# Altium schematic symbol library DC_Main_Schematic.SchLib: 65 symbols
Pins are listed as number, name and electrical type; pins without a type are passive.

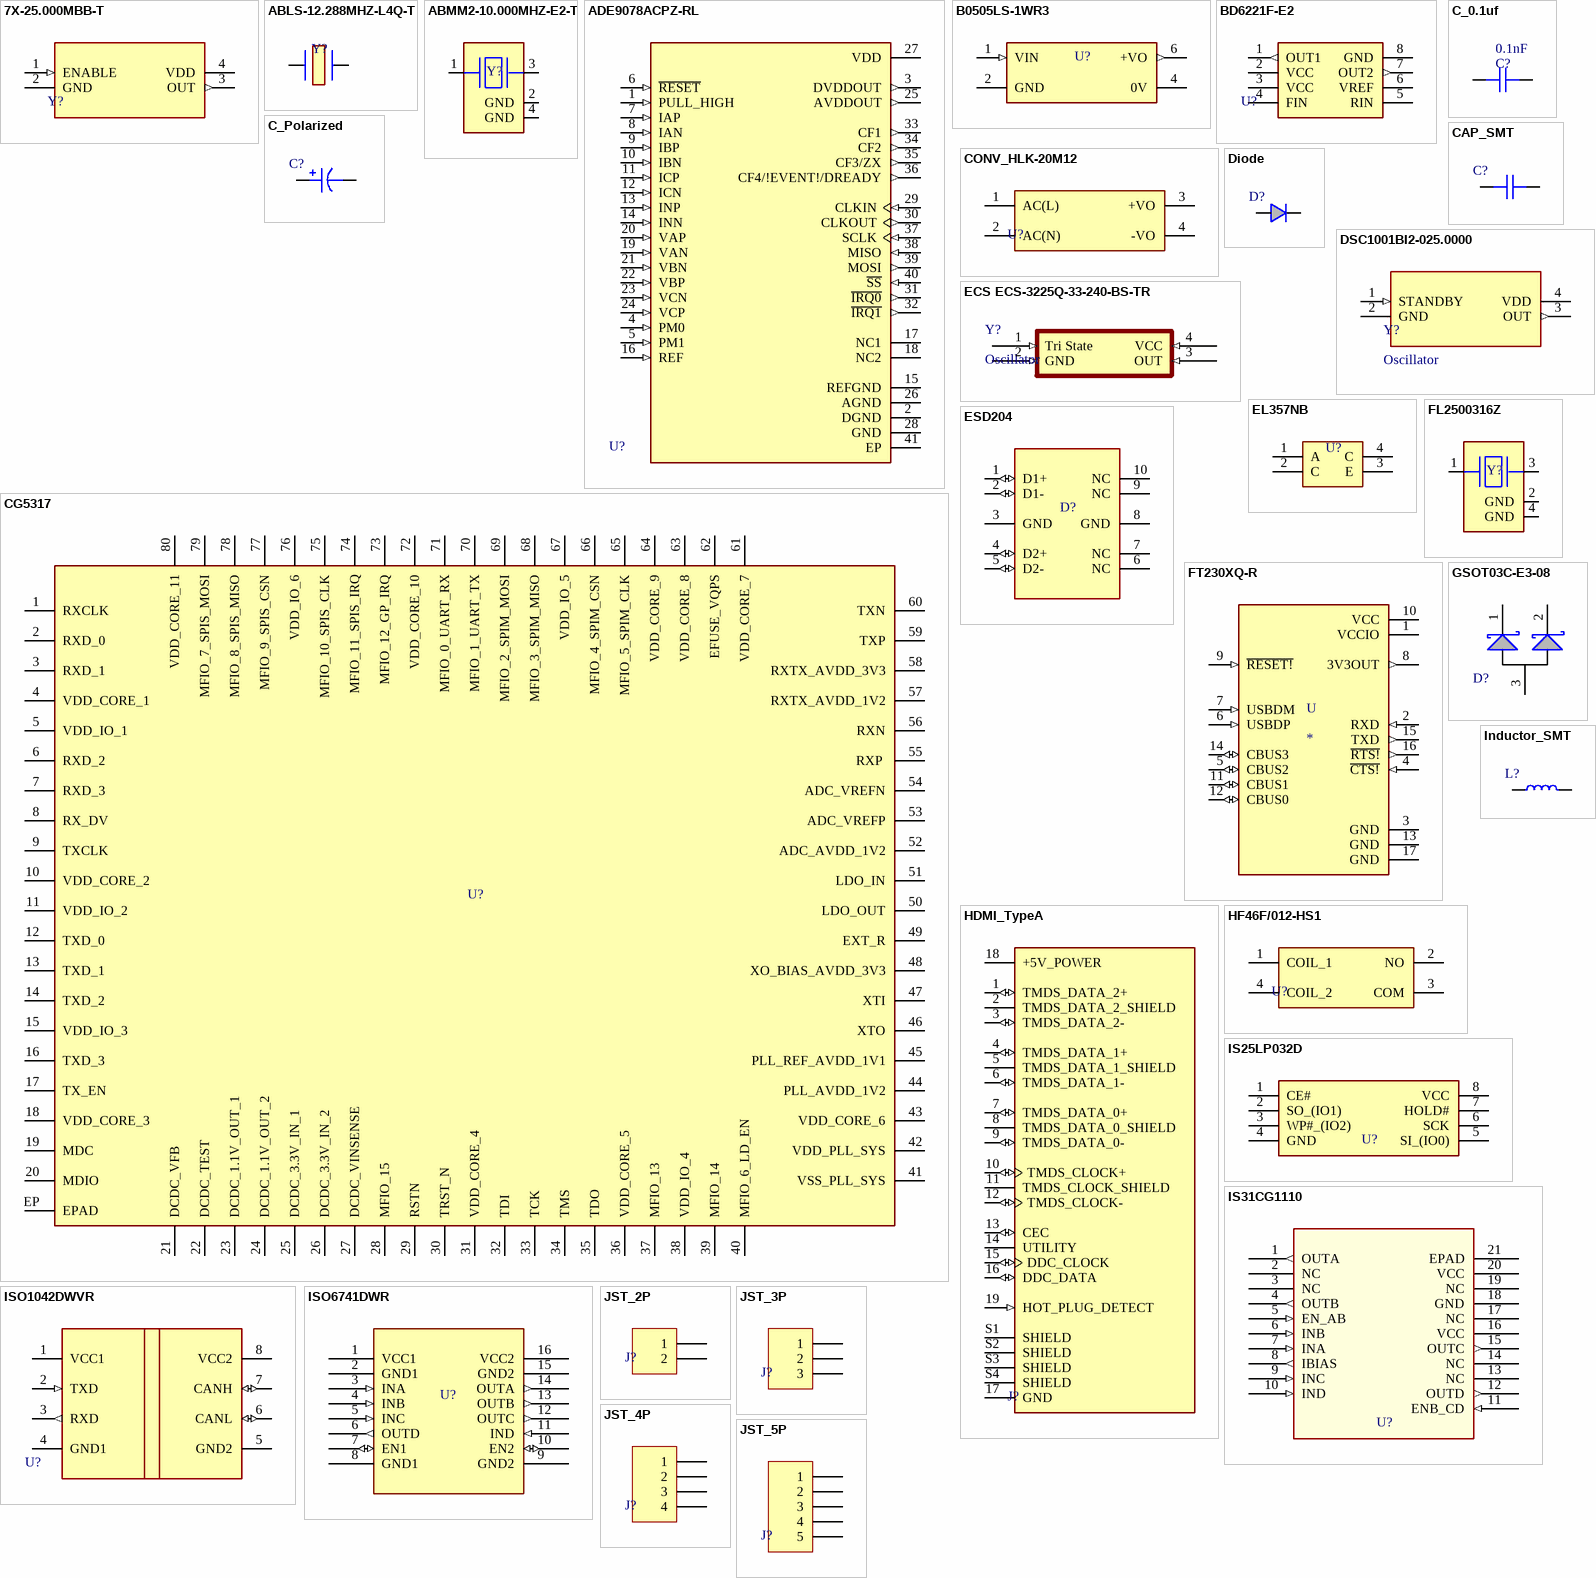
[diagram p0: symbols 7X-25.000MBB-T to JST_5P]

## 7X-25.000MBB-T
designator Y?, comment Oscillator  (value not drawn)
Standard Clock Oscillators 25.000MHz 3.3V50ppm(-10 +70C); ComponentLink1Description: New link
footprint 7X-25.000MBB-T
pins: 1 ENABLE (in), 2 GND (power), 3 OUT (out), 4 VDD (power)

## ABLS-12.288MHZ-L4Q-T
designator Y?, comment Crystal  (value not drawn)
12.288 MHz ±30ppm Crystal 18pF 50 Ohms HC-49/US; ComponentLink1Description: New link
footprint ABLS-12.288MHZ-L4Q-T
pins: 1, 2

## ABMM2-10.000MHZ-E2-T
designator Y?, comment Crystal  (value not drawn)
10 MHz ±20ppm Crystal 18pF 50 Ohms 4-SMD, No Lead; ComponentLink1Description: New link
footprint ABMM2-10.000MHZ-E2-T
pins: 1, 2 GND (power), 3 2, 4 GND (power)

## ADE9078ACPZ-RL
designator U?  (value not drawn)
Energy Measurement 40-Pin LFCSP EP T/R; ComponentLink1Description: New link; ComponentLink1URL: *; value: *
footprint ADE9078ACPZ-RL (LFCSP-40)
pins: 1 PULL_HIGH (in), 2 DGND (power), 3 DVDDOUT (out), 4 PM0 (in), 5 PM1 (in), 6 ~{RESET} (in), 7 IAP (in), 8 IAN (in), 9 IBP (in), 10 IBN (in), 11 ICP (in), 12 ICN (in), 13 INP (in), 14 INN (in), 15 REFGND (power), 16 REF (in), 17 NC1, 18 NC2, 19 VAN (in), 20 VAP (in), 21 VBN (in), 22 VBP (in), 23 VCN (in), 24 VCP (in), 25 AVDDOUT (out), 26 AGND (power), 27 VDD (power), 28 GND (power), 29 CLKIN (in), 30 CLKOUT (out), 31 ~{IRQ0} (out), 32 ~{IRQ1} (out), 33 CF1 (out), 34 CF2 (out), 35 CF3/ZX (out), 36 CF4/!EVENT!/DREADY (out), 37 SCLK (in), 38 MISO (in), 39 MOSI (out), 40 ~{SS} (in), 41 EP (power)

## B0505LS-1WR3
designator U?  (value not drawn)
Isolated Module DC DC Converter 1 Output 5V 200mA 4.5V - 5.5V Input; ComponentLink1Description: New link; ComponentLink1URL: *; value: *
footprint CONV_B0505LS-1WR3 (SIP,19.7x6mm)
pins: 1 VIN (in), 2 GND (power), 4 0V, 6 +VO (out)

## BD6221F-E2
designator U?  (value not drawn)
Motor/Motion/Ignition Controllers & Drivers H-BRIDGE 18V max 1 Chan 1.0A 1.5ohm; ComponentLink1Description: New link; value: *
footprint BD6221F-E2 (SOP-8)
pins: 1 OUT1 (out), 2 VCC (power), 3 VCC (power), 4 FIN, 5 RIN, 6 VREF (power), 7 OUT2 (out), 8 GND (power)

## C_0.1uf
designator C?, comment value 0.1nF  (hidden comment: Capacitor)
50V 100nF X7R ±10% 0402 Multilayer Ceramic Capacitors MLCC - SMD/SMT ROHS; Mfr: YAGEO; Mfr_prt_no: CC0402KRX7R9BB104; pkg: 0402; ComponentLink1Description: New link; ComponentLink1URL: https://www.lcsc.com/product-detail/Multilayer-Ceramic-Capacitors-MLCC-SMD-SMT_YAGEO-CC0402KRX7R9BB104_C131394.html; supplier: LCSC; supplier_prt_no: C131394
footprint C0402
pins: 1, 1

## C_Polarized
designator C?, comment Polarized Capacitor  (value not drawn)
ComponentLink1Description: New link
footprint C_CASE-D-7343
footprint C_CASE-C-6032
footprint C1206_Tantalum
pins: 1, 1

## CAP_SMT
designator C?, comment Capacitor  (value not drawn)
ComponentLink1Description: New link
footprint C0402
footprint C0603
footprint C0805
footprint C1206
pins: 1, 1

## CG5317
designator U?, comment HomePlug Green PHY Transceiver  (value not drawn)
HomePlug Green PHY Transceiver,EP-LQFP80; ComponentLink1Description: New link; value: *
footprint EP-LQFP80
pins: 1 RXCLK, 2 RXD_0, 3 RXD_1, 4 VDD_CORE_1, 5 VDD_IO_1, 6 RXD_2, 7 RXD_3, 8 RX_DV, 9 TXCLK, 10 VDD_CORE_2, 11 VDD_IO_2, 12 TXD_0, 13 TXD_1, 14 TXD_2, 15 VDD_IO_3, 16 TXD_3, 17 TX_EN, 18 VDD_CORE_3, 19 MDC, 20 MDIO, 21 DCDC_VFB, 22 DCDC_TEST, 23 DCDC_1.1V_OUT_1, 24 DCDC_1.1V_OUT_2, 25 DCDC_3.3V_IN_1, 26 DCDC_3.3V_IN_2, 27 DCDC_VINSENSE, 28 MFIO_15, 29 RSTN, 30 TRST_N, 31 VDD_CORE_4, 32 TDI, 33 TCK, 34 TMS, 35 TDO, 36 VDD_CORE_5, 37 MFIO_13, 38 VDD_IO_4, 39 MFIO_14, 40 MFIO_6_LD_EN, 41 VSS_PLL_SYS, 42 VDD_PLL_SYS, 43 VDD_CORE_6, 44 PLL_AVDD_1V2, 45 PLL_REF_AVDD_1V1, 46 XTO, 47 XTI, 48 XO_BIAS_AVDD_3V3, 49 EXT_R, 50 LDO_OUT, 51 LDO_IN, 52 ADC_AVDD_1V2, 53 ADC_VREFP, 54 ADC_VREFN, 55 RXP , 56 RXN, 57 RXTX_AVDD_1V2, 58 RXTX_AVDD_3V3, 59 TXP, 60 TXN, 61 VDD_CORE_7, 62 EFUSE_VQPS, 63 VDD_CORE_8, 64 VDD_CORE_9, 65 MFIO_5_SPIM_CLK, 66 MFIO_4_SPIM_CSN, 67 VDD_IO_5, 68 MFIO_3_SPIM_MISO, 69 MFIO_2_SPIM_MOSI, 70 MFIO_1_UART_TX, 71 MFIO_0_UART_RX, 72 VDD_CORE_10, 73 MFIO_12_GP_IRQ, 74 MFIO_11_SPIS_IRQ, 75 MFIO_10_SPIS_CLK, 76 VDD_IO_6, 77 MFIO_9_SPIS_CSN, 78 MFIO_8_SPIS_MISO, 79 MFIO_7_SPIS_MOSI, 80 VDD_CORE_11, EP EPAD

## CONV_HLK-20M12
designator U?  (value not drawn)
12V 1.6A 90VAC~265VAC 120V~350V 20W Step Down AC-DC 82% Plugin Power Modules ROHS; ComponentLink1Description: New link; ComponentLink1URL: *; value: *
footprint CONV_HLK-20M12
pins: 1 AC(L), 2 AC(N), 3 +VO, 4 -VO

## Diode
designator D?  (value not drawn)
ComponentLink1Description: New link; ComponentLink1URL: *; value: *
footprint DO-219AB
pins: A, C K

## DSC1001BI2-025.0000
designator Y?, comment Oscillator
Standard Clock Oscillators 5032 pkg -40-85C 25ppm 025.0000MHz; ComponentLink1Description: New link
footprint DSC1001BI2-025.0000
pins: 1 STANDBY (in), 2 GND (power), 3 OUT (out), 4 VDD (power)

## ECS ECS-3225Q-33-240-BS-TR
designator Y?, comment Oscillator
SMD3225-4P Crystal Oscillators ROHS / 24MHz
footprint ECS-3225Q-33-240-BS-TR
pins: 1 Tri State (in), 2 GND (in), 3 OUT (in), 4 VCC (in)

## EL357NB
designator U?  (value not drawn)
80V 3.75kV 80mA 100mV@1mA,20mA 1 6V 1.2V DC SOP-4 Transistor Output Optocoupler; ComponentLink1Description: New link; ComponentLink1URL: *; value: *
footprint SOP-4
pins: 1 A, 2 C, 3 E, 4 C

## ESD204
designator D?, comment ESD Protection  (value not drawn)
ESD / Quad 0.55-pF, ±3.6-V, ±30-kV ESD protection diode with 5.5A surge rating for USB & HDMI; ComponentLink1Description: New link
footprint USON-10 (ESD204)
pins: 1 D1+ (io), 2 D1- (io), 3 GND (power), 4 D2+ (io), 5 D2- (io), 6 NC, 7 NC, 8 GND (power), 9 NC, 10 NC

## FL2500316Z
designator Y?, comment Crystal  (value not drawn)
25 MHz ±20ppm Crystal 20pF 30 Ohms 4-SMD, No Lead; ComponentLink1Description: New link
footprint FL2500316Z
pins: 1, 2 GND (power), 3 2, 4 GND (power)

## FT230XQ-R
designator U
USB Bridge, USB to UART USB 2.0 UART Interface 16-QFN (4x4); MP: FT230XQ-R; MF: FTDI,; Availability: Unavailable; Value: *; DigiKey-Purchase-URL: https://snapeda.com/shop?store=DigiKey&id=51347; Package: QFN-16 FTDI; Price: None; SnapEDA_Link: https://www.snapeda.com/parts/FT230XQ-R/FTDI,%20Future%20Technology%20Devices%20International%20Ltd/view-part/51347/?ref=snap
footprint FT230XQ-R
pins: 1 VCCIO (power), 2 RXD (in), 3 GND (power), 4 ~{CTS!} (in), 5 CBUS2 (io), 6 USBDP (in), 7 USBDM (in), 8 3V3OUT (out), 9 ~{RESET!} (in), 10 VCC (power), 11 CBUS1 (io), 12 CBUS0 (io), 13 GND (power), 14 CBUS3 (io), 15 TXD (out), 16 ~{RTS!} (out), 17 GND (power)

## GSOT03C-E3-08
designator D?, comment TVS  (value not drawn)
12.3V Clamp 30A (8/20µs) Ipp Tvs Diode Surface Mount SOT-23-3; ComponentLink1Description: New link; ComponentLink1URL: *; value: *
footprint SOT-23-3
pins: 1 K1, 2 K2, 3 A

## HDMI_TypeA
designator J?, comment HDMI Type A  (value not drawn)
HDMI, Input Output Connectors, Receptacle, Type A, Right Angle, Surface Mount, 19 Positions.; ComponentLink1Description: New link
footprint HDMI TypeA SMD
pins: 1 TMDS_DATA_2+ (io), 2 TMDS_DATA_2_SHIELD, 3 TMDS_DATA_2- (io), 4 TMDS_DATA_1+ (io), 5 TMDS_DATA_1_SHIELD, 6 TMDS_DATA_1- (io), 7 TMDS_DATA_0+ (io), 8 TMDS_DATA_0_SHIELD, 9 TMDS_DATA_0- (io), 10 TMDS_CLOCK+ (io), 11 TMDS_CLOCK_SHIELD, 12 TMDS_CLOCK- (io), 13 CEC (io), 14 UTILITY, 15 DDC_CLOCK (io), 16 DDC_DATA (io), 17 GND (power), 18 +5V_POWER (power), 19 HOT_PLUG_DETECT (in), S1 SHIELD, S2 SHIELD, S3 SHIELD, S4 SHIELD

## HF46F/012-HS1
designator U?  (value not drawn)
12V 5A Normal Open:1A(SPST-Normal Open) Plugin,7x20.5mm Power Relays ROHS; ComponentLink1Description: New link; ComponentLink1URL: *; value: *
footprint HF46F/012-HS1 (Plugin,7x20.5mm)
pins: 1 COIL_1, 2 NO, 3 COM, 4 COIL_2

## Inductor_SMT
designator L?, comment Inductor  (value not drawn)
ComponentLink1Description: New link
footprint L_0805
pins: 1, 2

## IS25LP032D
designator U?, comment Flash Memory  (value not drawn)
FLASH - NOR Memory IC 32Mb (4M x 8) SPI - Quad I/O, QPI, DTR 133 MHz 8-SOIC; ComponentLink1Description: New link; value: *
footprint SOIC-8
pins: 1 CE#, 2 SO_(IO1), 3 WP#_(IO2), 4 GND, 5 SI_(IO0), 6 SCK, 7 HOLD#, 8 VCC

## IS31CG1110
designator U?, comment ISSI Line Driver IC  (value not drawn)
Buffers & Line Drivers High-performance MIMO/SISO dual port differential line driver designed to work in broadband PLC system; ComponentLink1Description: New link; value: *
footprint QFLS2
pins: 1 OUTA (out), 2 NC, 3 NC, 4 OUTB (out), 5 EN_AB (in), 6 INB (in), 7 INA (in), 8 IBIAS (out), 9 INC (in), 10 IND (in), 11 ENB_CD (in), 12 OUTD (out), 13 NC, 14 NC, 15 OUTC (out), 16 VCC (power), 17 NC, 18 GND (power), 19 NC, 20 VCC (power), 21 EPAD (power)

## ISO1042DWVR
designator U?, comment CAN Transceiver  (value not drawn)
CAN Interface IC Isolated CAN transceiver with 70-V bus fault protection & flexible data rate 8-SOIC -40 to 125; ComponentLink1Description: New link
footprint ISO1042DWVR
pins: 1 VCC1 (power), 2 TXD (in), 3 RXD (out), 4 GND1 (power), 5 GND2 (power), 6 CANL (io), 7 CANH (io), 8 VCC2 (power)

## ISO6741DWR
designator U?  (value not drawn)
CAN, RS232, RS485, SPI Digital Isolator 5000Vrms 4 Channel 50Mbps 100kV/µs CMTI 16-SOIC (0.295", 7.50mm Width); ComponentLink1Description: New link; ComponentLink1URL: *; value: *
footprint SOIC-16
pins: 1 VCC1 (power), 2 GND1 (power), 3 INA (in), 4 INB (in), 5 INC (in), 6 OUTD (out), 7 EN1 (io), 8 GND1 (power), 9 GND2 (power), 10 EN2 (io), 11 IND (in), 12 OUTC (out), 13 OUTB (out), 14 OUTA (out), 15 GND2 (power), 16 VCC2 (power)

## JST_2P
designator J?, comment 2 Pins-2.5mm Pitch Connector  (value not drawn)
ComponentLink1Description: New link; ComponentLink1URL: *
footprint JST_B2B-XH-A
pins: 1, 2

## JST_3P
designator J?, comment 3 Pins-2.5mm Pitch Connector  (value not drawn)
ComponentLink1Description: New link; ComponentLink1URL: *
footprint JST_B3B-XH-A
pins: 1, 2, 3

## JST_4P
designator J?, comment 4 Pins-2.5mm Pitch Connector  (value not drawn)
ComponentLink1Description: New link; ComponentLink1URL: *
footprint JST_B4B-XH-A
pins: 1, 2, 3, 4

## JST_5P
designator J?, comment 5 Pins-2.5mm Pitch Connector  (value not drawn)
ComponentLink1Description: New link; ComponentLink1URL: *
footprint JST_B5B-XH-A
pins: 1, 2, 3, 4, 5

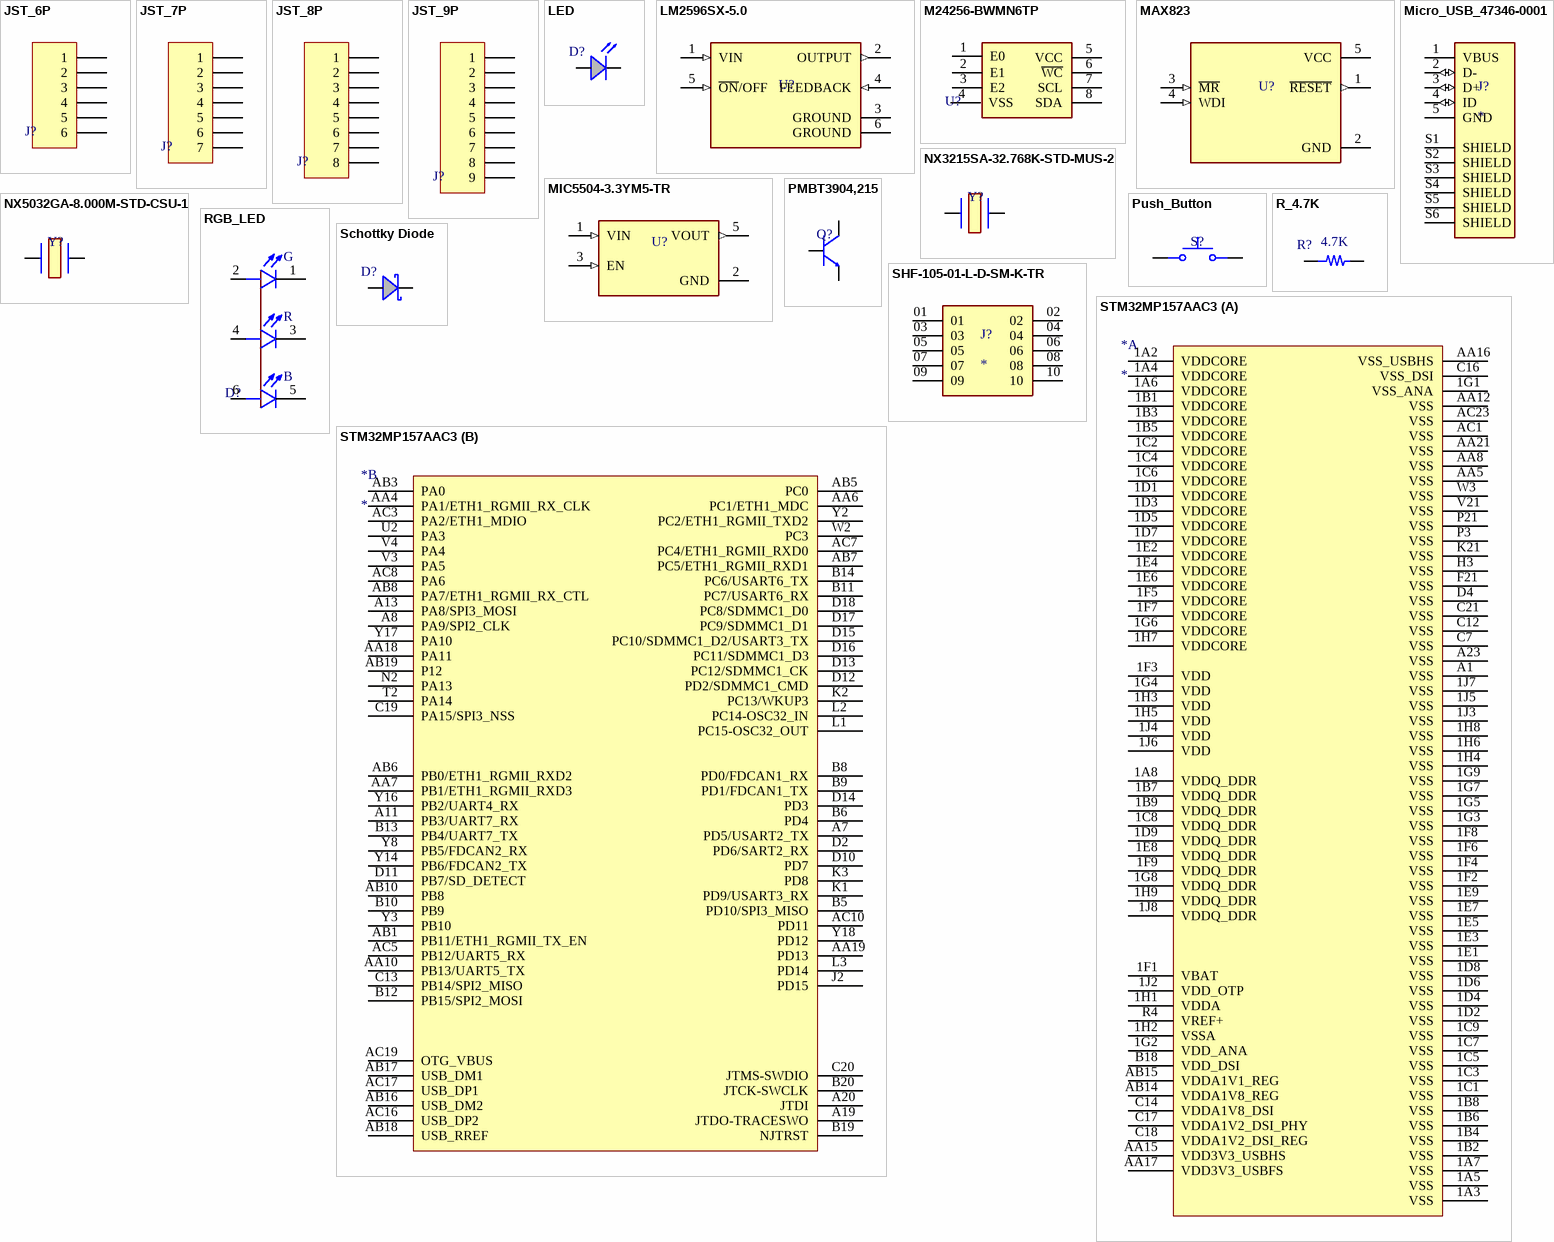
[diagram p1: symbols JST_6P to STM32MP157AAC3]

## JST_6P
designator J?, comment 6 Pins-2.5mm Pitch Connector  (value not drawn)
ComponentLink1Description: New link; ComponentLink1URL: *
footprint JST_B6B-XH-A
pins: 1, 2, 3, 4, 5, 6

## JST_7P
designator J?, comment 7 Pins-2.5mm Pitch Connector  (value not drawn)
ComponentLink1Description: New link; ComponentLink1URL: *
footprint JST_B7B-XH-A
pins: 1, 2, 3, 4, 5, 6, 7

## JST_8P
designator J?, comment 8 Pins-2.5mm Pitch Connector  (value not drawn)
ComponentLink1Description: New link; ComponentLink1URL: *
footprint JST_B8B-XH-A
pins: 1, 2, 3, 4, 5, 6, 7, 8

## JST_9P
designator J?, comment 9 Pins-2.5mm Pitch Connector  (value not drawn)
ComponentLink1Description: New link; ComponentLink1URL: *
footprint JST_B9B-XH-A
pins: 1, 2, 3, 4, 5, 6, 7, 8, 9

## LED
designator D?  (value not drawn)
ComponentLink1Description: New link; ComponentLink1URL: *; value: *
footprint LED_0603
pins: A, C K

## LM2596SX-5.0
designator U?  (value not drawn)
SIMPLE SWITCHER&reg; 4.5V to 40V, 3A Low Component Count Step-Down Regulator; ComponentLink1Description: New link; ComponentLink1URL: *; value: *
footprint TO-263-5
pins: 1 VIN (in), 2 OUTPUT (out), 3 GROUND (power), 4 FEEDBACK (in), 5 ~{ON}/OFF (in), 6 GROUND (power)

## M24256-BWMN6TP
designator U?  (value not drawn)
M24256-BWMN6TP, Serial EEPROM Memory 256kbit, Serial-I2C, 900ns 2.5  5.5 V, 8-Pin SOIC; ComponentLink1Description: New link; value: *
footprint SOIC-8
pins: 1 E0, 2 E1, 3 E2, 4 VSS, 5 VCC, 6 ~{WC}, 7 SCL, 8 SDA

## MAX823
designator U?, comment Supervisory Circuits  (value not drawn)
Supervisory Circuits 5-Pin Microprocessor Supervisory Circuit; ComponentLink1Description: New link; value: *
footprint SOT-23-5
pins: 1 ~{RESET} (out), 2 GND (power), 3 ~{MR} (in), 4 WDI (in), 5 VCC (power)

## MIC5504-3.3YM5-TR
designator U?  (value not drawn)
Single 300mA LDO with Enable Pull-Down & Auto Discharge; ComponentLink1Description: New link; ComponentLink1URL: *; value: *
footprint SOT-23-5
pins: 1 VIN (in), 2 GND (power), 3 EN (in), 5 VOUT (out)

## Micro_USB_47346-0001
designator J?
Conn Data USB Micro B w/Flange SMT Bottom Mnt LF | Molex Incorporated 47346-0001; SnapEDA_Link: https://www.snapeda.com/parts/47346-0001/Molex/view-part/?ref=snap; Package: None; Value: *; MF: Molex; MP: 47346-0001; Check_prices: https://www.snapeda.com/parts/47346-0001/Molex/view-part/?ref=eda
footprint Micro_USB_47346-0001
pins: 1 VBUS (power), 2 D- (io), 3 D+ (io), 4 ID (io), 5 GND (power), S1 SHIELD, S2 SHIELD, S3 SHIELD, S4 SHIELD, S5 SHIELD, S6 SHIELD

## NX3215SA-32.768K-STD-MUS-2
designator Y?, comment Crystal  (value not drawn)
32.768 kHz ±20ppm Crystal 12.5pF 70 kOhms 2-SMD, No Lead; ComponentLink1Description: New link
footprint NX3215SA-32.768K-STD-MUS-2
pins: 1, 2

## NX5032GA-8.000M-STD-CSU-1
designator Y?, comment Crystal  (value not drawn)
8 MHz ±50ppm Crystal 8pF 300 Ohms 2-SMD, No Lead; ComponentLink1Description: New link
footprint NX5032GA-8.000M-STD-CSU-1
pins: 1, 2

## PMBT3904,215
designator Q?, comment Transistor NPN  (value not drawn)
Bipolar (BJT) Transistor NPN 40 V 200 mA 300MHz 250 mW Surface Mount TO-236AB; ComponentLink1Description: New link; ComponentLink1URL: *; value: *
footprint SOT-23-3
pins: 1 B, 2 E, 3 C

## Push_Button
designator S?, comment Push Button 4 pin  (value not drawn)
Push Button SMD(6x6mm) 4 pin; ComponentLink1Description: New link
footprint Push_Button(6x6mm)
pins: 1, 2 1, 3, 4 3

## R_4.7K
designator R?, comment value 4.7K  (hidden comment: Resistor)
62.5mW Thick Film Resistors 50V ±100ppm/℃ ±5% 4.7kΩ 0402 Chip Resistor - Surface Mount ROHS; Mfr: YAGEO; Mfr_prt_no: RC0402JR-074K7L; pkg: 0402; ComponentLink1Description: New link; ComponentLink1URL: *; supplier: LCSC; supplier_prt_no: C105870
footprint R0402
pins: 1, 1

## RGB_LED
designator D?  (value not drawn)
ComponentLink1Description: New link; ComponentLink1URL: *; value: *
footprint LED_0606
pins: 1 G_C, 2 G_A, 3 R_C, 4 R_A, 5 B_C, 6 B_A
text: G; R; B

## Schottky Diode
designator D?  (value not drawn)
Schottky Diodes & Rectifiers; ComponentLink1Description: New link; ComponentLink1URL: *; value: *
footprint DO-214AC-2
footprint DO-219AD
pins: A, C K

## SHF-105-01-L-D-SM-K-TR
designator J?
SMD Wire To Board Connector ROHS; MP: SHF-105-01-L-D-SM-K-TR; MF: Samtec; Price: None; Package: None; Availability: Unavailable; Value: *
footprint SAMTEC_SHF-105-01-L-D-SM-K-TR
pins: 01, 02, 03, 04, 05, 06, 07, 08, 09, 10

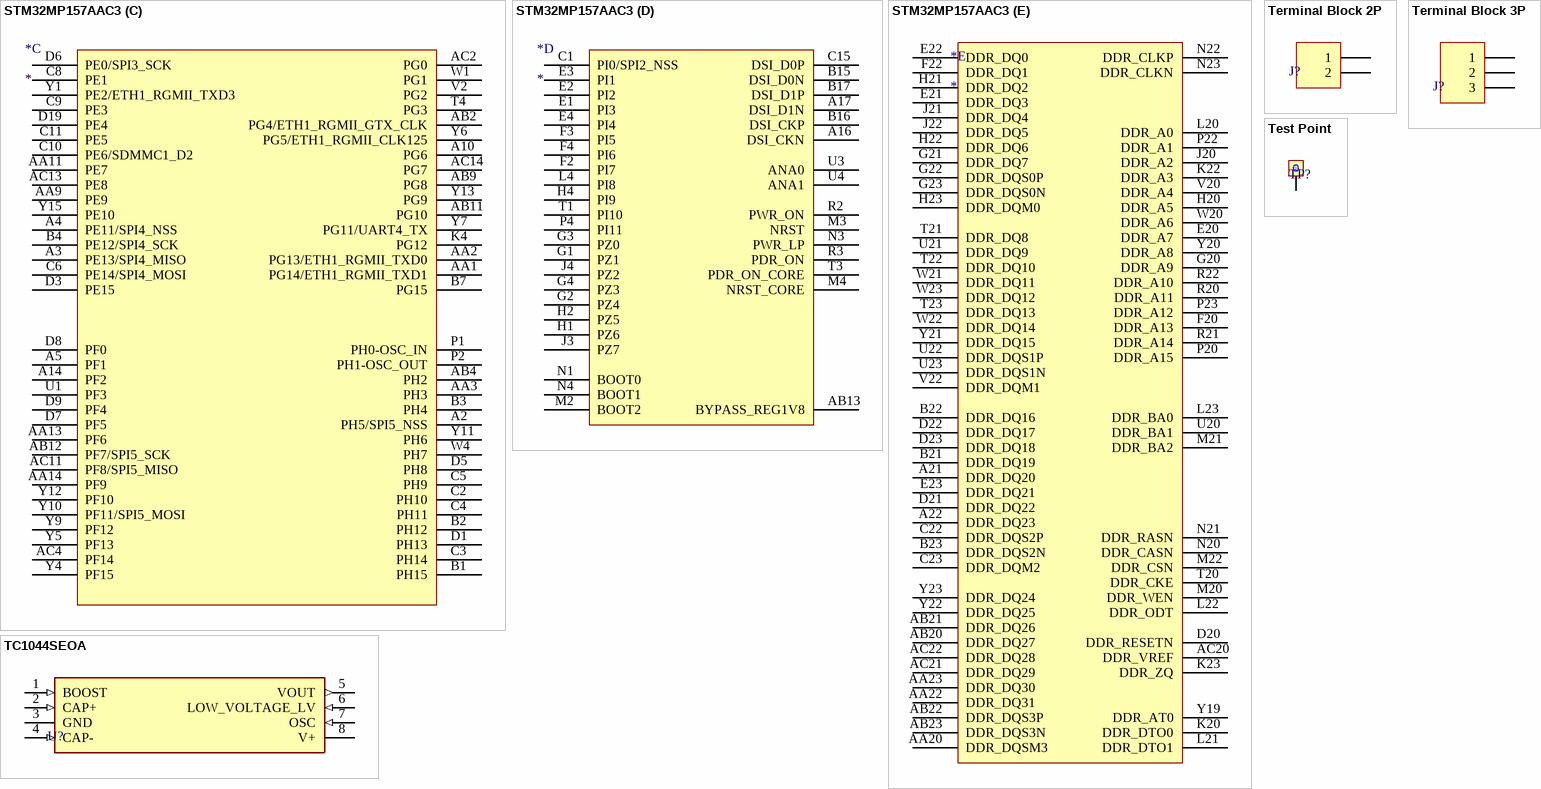
[diagram p2: symbols STM32MP157AAC3 to Test Point]

## STM32MP157AAC3
designator *
manufacturer: *; manufacturer_part_no: *; supplier: *; supplier_part_no: *; pkg: *; value: *; ComponentLink1Description: New link; ComponentLink1URL: *
part A pins: 1A2 VDDCORE (power), 1A3 VSS (power), 1A4 VDDCORE (power), 1A5 VSS (power), 1A6 VDDCORE (power), 1A7 VSS (power), 1A8 VDDQ_DDR (power), 1B1 VDDCORE (power), 1B2 VSS (power), 1B3 VDDCORE (power), 1B4 VSS (power), 1B5 VDDCORE (power), 1B6 VSS (power), 1B7 VDDQ_DDR (power), 1B8 VSS (power), 1B9 VDDQ_DDR (power), 1C1 VSS (power), 1C2 VDDCORE (power), 1C3 VSS (power), 1C4 VDDCORE (power), 1C5 VSS (power), 1C6 VDDCORE (power), 1C7 VSS (power), 1C8 VDDQ_DDR (power), 1C9 VSS (power), 1D1 VDDCORE (power), 1D2 VSS (power), 1D3 VDDCORE (power), 1D4 VSS (power), 1D5 VDDCORE (power), 1D6 VSS (power), 1D7 VDDCORE (power), 1D8 VSS (power), 1D9 VDDQ_DDR (power), 1E1 VSS (power), 1E2 VDDCORE (power), 1E3 VSS (power), 1E4 VDDCORE (power), 1E5 VSS (power), 1E6 VDDCORE (power), 1E7 VSS (power), 1E8 VDDQ_DDR (power), 1E9 VSS (power), 1F1 VBAT (power), 1F2 VSS (power), 1F3 VDD (power), 1F4 VSS (power), 1F5 VDDCORE (power), 1F6 VSS (power), 1F7 VDDCORE (power), 1F8 VSS (power), 1F9 VDDQ_DDR (power), 1G1 VSS_ANA (power), 1G2 VDD_ANA (power), 1G3 VSS (power), 1G4 VDD (power), 1G5 VSS (power), 1G6 VDDCORE (power), 1G7 VSS (power), 1G8 VDDQ_DDR (power), 1G9 VSS (power), 1H1 VDDA (power), 1H2 VSSA (power), 1H3 VDD (power), 1H4 VSS (power), 1H5 VDD (power), 1H6 VSS (power), 1H7 VDDCORE (power), 1H8 VSS (power), 1H9 VDDQ_DDR (power), 1J2 VDD_OTP (power), 1J3 VSS (power), 1J4 VDD (power), 1J5 VSS (power), 1J6 VDD (power), 1J7 VSS (power), 1J8 VDDQ_DDR (power), A1 VSS (power), A23 VSS (power), AA5 VSS (power), AA8 VSS (power), AA12 VSS (power), AA15 VDD3V3_USBHS (power), AA16 VSS_USBHS (power), AA17 VDD3V3_USBFS (power), AA21 VSS (power), AB14 VDDA1V8_REG (power), AB15 VDDA1V1_REG (power), AC1 VSS (power), AC23 VSS (power), B18 VDD_DSI (power), C7 VSS (power), C12 VSS (power), C14 VDDA1V8_DSI (power), C16 VSS_DSI (power), C17 VDDA1V2_DSI_PHY (power), C18 VDDA1V2_DSI_REG (power), C21 VSS (power), D4 VSS (power), F21 VSS (power), H3 VSS (power), K21 VSS (power), P3 VSS (power), P21 VSS (power), R4 VREF+ (power), V21 VSS (power), W3 VSS (power)
part B pins: A7 PD5/USART2_TX, A8 PA9/SPI2_CLK, A11 PB3/UART7_RX, A13 PA8/SPI3_MOSI, A19 JTDO-TRACESWO, A20 JTDI, AA4 PA1/ETH1_RGMII_RX_CLK, AA6 PC1/ETH1_MDC, AA7 PB1/ETH1_RGMII_RXD3, AA10 PB13/UART5_TX, AA18 PA11, AA19 PD13, AB1 PB11/ETH1_RGMII_TX_EN, AB3 PA0, AB5 PC0, AB6 PB0/ETH1_RGMII_RXD2, AB7 PC5/ETH1_RGMII_RXD1, AB8 PA7/ETH1_RGMII_RX_CTL, AB10 PB8, AB16 USB_DM2, AB17 USB_DM1, AB18 USB_RREF, AB19 P12, AC3 PA2/ETH1_MDIO, AC5 PB12/UART5_RX, AC7 PC4/ETH1_RGMII_RXD0, AC8 PA6, AC10 PD11, AC16 USB_DP2, AC17 USB_DP1, AC19 OTG_VBUS, B5 PD10/SPI3_MISO, B6 PD4, B8 PD0/FDCAN1_RX, B9 PD1/FDCAN1_TX, B10 PB9, B11 PC7/USART6_RX, B12 PB15/SPI2_MOSI, B13 PB4/UART7_TX, B14 PC6/USART6_TX, B19 NJTRST, B20 JTCK-SWCLK, C13 PB14/SPI2_MISO, C19 PA15/SPI3_NSS, C20 JTMS-SWDIO, D2 PD6/SART2_RX, D10 PD7, D11 PB7/SD_DETECT, D12 PD2/SDMMC1_CMD, D13 PC12/SDMMC1_CK, D14 PD3, D15 PC10/SDMMC1_D2/USART3_TX, D16 PC11/SDMMC1_D3, D17 PC9/SDMMC1_D1, D18 PC8/SDMMC1_D0, J2 PD15, K1 PD9/USART3_RX, K2 PC13/WKUP3, K3 PD8, L1 PC15-OSC32_OUT, L2 PC14-OSC32_IN, L3 PD14, N2 PA13, T2 PA14, U2 PA3, V3 PA5, V4 PA4, W2 PC3, Y2 PC2/ETH1_RGMII_TXD2, Y3 PB10, Y8 PB5/FDCAN2_RX, Y14 PB6/FDCAN2_TX, Y16 PB2/UART4_RX, Y17 PA10, Y18 PD12
part C pins: A2 PH5/SPI5_NSS, A3 PE13/SPI4_MISO, A4 PE11/SPI4_NSS, A5 PF1, A10 PG6, A14 PF2, AA1 PG14/ETH1_RGMII_TXD1, AA2 PG13/ETH1_RGMII_TXD0, AA3 PH3, AA9 PE9, AA11 PE7, AA13 PF6, AA14 PF9, AB2 PG4/ETH1_RGMII_GTX_CLK, AB4 PH2, AB9 PG8, AB11 PG10, AB12 PF7/SPI5_SCK, AC2 PG0, AC4 PF14, AC11 PF8/SPI5_MISO, AC13 PE8, AC14 PG7, B1 PH15, B2 PH12, B3 PH4, B4 PE12/SPI4_SCK, B7 PG15, C2 PH10, C3 PH14, C4 PH11, C5 PH9, C6 PE14/SPI4_MOSI, C8 PE1, C9 PE3, C10 PE6/SDMMC1_D2, C11 PE5, D1 PH13, D3 PE15, D5 PH8, D6 PE0/SPI3_SCK, D7 PF5, D8 PF0, D9 PF4, D19 PE4, K4 PG12, P1 PH0-OSC_IN, P2 PH1-OSC_OUT, T4 PG3, U1 PF3, V2 PG2, W1 PG1, W4 PH7, Y1 PE2/ETH1_RGMII_TXD3, Y4 PF15, Y5 PF13, Y6 PG5/ETH1_RGMII_CLK125, Y7 PG11/UART4_TX, Y9 PF12, Y10 PF11/SPI5_MOSI, Y11 PH6, Y12 PF10, Y13 PG9, Y15 PE10
part D pins: A16 DSI_CKN, A17 DSI_D1N, AB13 BYPASS_REG1V8, B15 DSI_D0N, B16 DSI_CKP, B17 DSI_D1P, C1 PI0/SPI2_NSS, C15 DSI_D0P, E1 PI3, E2 PI2, E3 PI1, E4 PI4, F2 PI7, F3 PI5, F4 PI6, G1 PZ1, G2 PZ4, G3 PZ0, G4 PZ3, H1 PZ6, H2 PZ5, H4 PI9, J3 PZ7, J4 PZ2, L4 PI8, M2 BOOT2, M3 NRST, M4 NRST_CORE, N1 BOOT0, N3 PWR_LP, N4 BOOT1, P4 PI11, R2 PWR_ON, R3 PDR_ON, T1 PI10, T3 PDR_ON_CORE, U3 ANA0, U4 ANA1
part E pins: A21 DDR_DQ20, A22 DDR_DQ23, AA20 DDR_DQSM3, AA22 DDR_DQ31, AA23 DDR_DQ30, AB20 DDR_DQ27, AB21 DDR_DQ26, AB22 DDR_DQS3P, AB23 DDR_DQS3N, AC20 DDR_VREF, AC21 DDR_DQ29, AC22 DDR_DQ28, B21 DDR_DQ19, B22 DDR_DQ16, B23 DDR_DQS2N, C22 DDR_DQS2P, C23 DDR_DQM2, D20 DDR_RESETN, D21 DDR_DQ22, D22 DDR_DQ17, D23 DDR_DQ18, E20 DDR_A7, E21 DDR_DQ3, E22 DDR_DQ0, E23 DDR_DQ21, F20 DDR_A13, F22 DDR_DQ1, G20 DDR_A9, G21 DDR_DQ7, G22 DDR_DQS0P, G23 DDR_DQS0N, H20 DDR_A5, H21 DDR_DQ2, H22 DDR_DQ6, H23 DDR_DQM0, J20 DDR_A2, J21 DDR_DQ4, J22 DDR_DQ5, K20 DDR_DTO0, K22 DDR_A3, K23 DDR_ZQ, L20 DDR_A0, L21 DDR_DTO1, L22 DDR_ODT, L23 DDR_BA0, M20 DDR_WEN, M21 DDR_BA2, M22 DDR_CSN, N20 DDR_CASN, N21 DDR_RASN, N22 DDR_CLKP, N23 DDR_CLKN, P20 DDR_A15, P22 DDR_A1, P23 DDR_A12, R20 DDR_A11, R21 DDR_A14, R22 DDR_A10, T20 DDR_CKE, T21 DDR_DQ8, T22 DDR_DQ10, T23 DDR_DQ13, U20 DDR_BA1, U21 DDR_DQ9, U22 DDR_DQS1P, U23 DDR_DQS1N, V20 DDR_A4, V22 DDR_DQM1, W20 DDR_A6, W21 DDR_DQ11, W22 DDR_DQ14, W23 DDR_DQ12, Y19 DDR_AT0, Y20 DDR_A8, Y21 DDR_DQ15, Y22 DDR_DQ25, Y23 DDR_DQ24

## TC1044SEOA
designator U?  (value not drawn)
Fixed -12V~-1.5V 1.5V~12V 20mA IC Charge Pump SOIC-8 DC-DC Converters ROHS; ComponentLink1Description: New link; ComponentLink1URL: *; value: *
footprint SOIC-8
pins: 1 BOOST (in), 2 CAP+ (in), 3 GND, 4 CAP- (in), 5 VOUT (out), 6 LOW_VOLTAGE_LV (in), 7 OSC (in), 8 V+ (power)

## Terminal Block 2P
designator J?, comment 2 Position-5.08mm Pitch Terminal Block  (value not drawn)
ComponentLink1Description: New link; ComponentLink1URL: *
footprint Terminal_Block_2 Pin_5.08mm
pins: 1, 2

## Terminal Block 3P
designator J?, comment 3 Position-5.08mm Pitch Terminal Block  (value not drawn)
ComponentLink1Description: New link; ComponentLink1URL: *
footprint Terminal_block_3 pin_5.08mm
footprint Terminal_Block_3 Pin_10.16mm
pins: 1, 2, 3

## Test Point
designator TP?  (value not drawn)
footprint Test Point
pins: 0

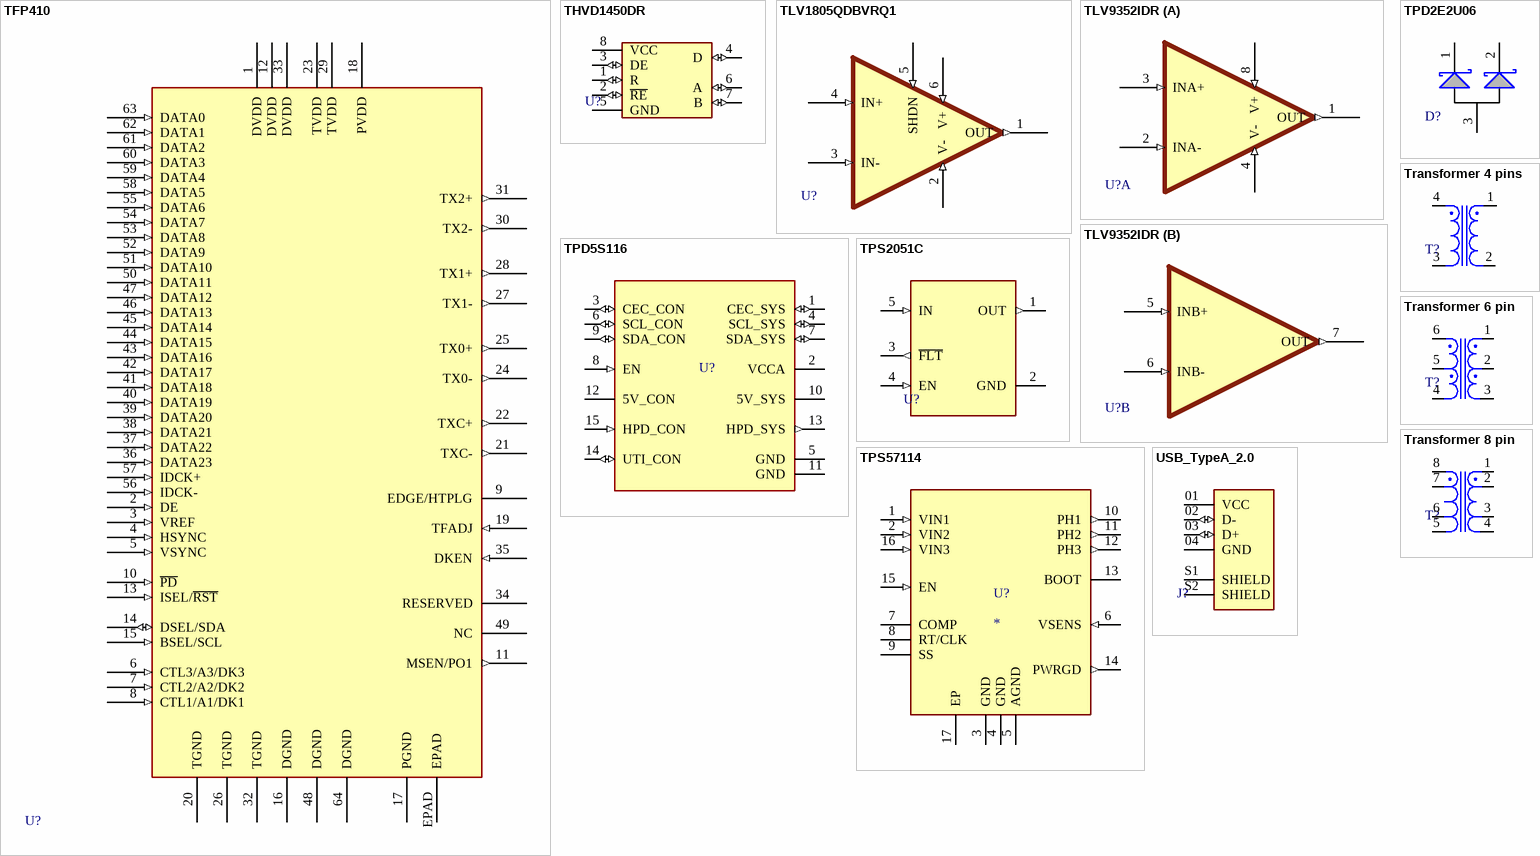
[diagram p3: symbols TFP410 to USB_TypeA_2.0]

## TFP410
designator U?, comment HDMI Transmitter  (value not drawn)
HDMI Transmitter - 165-MHz TMDS DVI transmitter/serializer & Panelbus; ComponentLink1Description: New link; value: *
footprint TFP410 (HTQFP-64)
pins: 1 DVDD (power), 2 DE (in), 3 VREF (in), 4 HSYNC (in), 5 VSYNC (in), 6 CTL3/A3/DK3 (in), 7 CTL2/A2/DK2 (in), 8 CTL1/A1/DK1 (in), 9 EDGE/HTPLG, 10 ~{PD} (in), 11 MSEN/PO1 (out), 12 DVDD (power), 13 ISEL/~{RST} (in), 14 DSEL/SDA (io), 15 BSEL/SCL (in), 16 DGND (power), 17 PGND (power), 18 PVDD (power), 19 TFADJ (in), 20 TGND (power), 21 TXC- (out), 22 TXC+ (out), 23 TVDD (power), 24 TX0- (out), 25 TX0+ (out), 26 TGND (power), 27 TX1- (out), 28 TX1+ (out), 29 TVDD (power), 30 TX2- (out), 31 TX2+ (out), 32 TGND (power), 33 DVDD (power), 34 RESERVED, 35 DKEN (in), 36 DATA23 (in), 37 DATA22 (in), 38 DATA21 (in), 39 DATA20 (in), 40 DATA19 (in), 41 DATA18 (in), 42 DATA17 (in), 43 DATA16 (in), 44 DATA15 (in), 45 DATA14 (in), 46 DATA13 (in), 47 DATA12 (in), 48 DGND (power), 49 NC, 50 DATA11 (in), 51 DATA10 (in), 52 DATA9 (in), 53 DATA8 (in), 54 DATA7 (in), 55 DATA6 (in), 56 IDCK- (in), 57 IDCK+ (in), 58 DATA5 (in), 59 DATA4 (in), 60 DATA3 (in), 61 DATA2 (in), 62 DATA1 (in), 63 DATA0 (in), 64 DGND (power), EPAD

## THVD1450DR
designator U?  (value not drawn)
3.3-V to 5-V RS-485 transceiver with ±18-kV IEC ESD protection; ComponentLink1Description: New link; value: *
footprint SOIC-8
pins: 1 R (io), 2 ~{RE} (io), 3 DE (io), 4 D (io), 5 GND (power), 6 A (io), 7 B (io), 8 VCC (power)

## TLV1805QDBVRQ1
designator U?  (value not drawn)
Automotive high volt comparator with push-pull output and shutdown 6-SOT-23 -40 to 125; ComponentLink1Description: New link; ComponentLink1URL: *; value: *
footprint SOT-23-6
pins: 1 OUT (out), 2 V- (in), 3 IN- (in), 4 IN+ (in), 5 SHDN (in), 6 V+ (in)

## TLV9352IDR
designator U?  (value not drawn)
Dual, 40-V, 3.5-MHz, low-power operational amplifier; ComponentLink1Description: New link; ComponentLink1URL: *; value: *
footprint SOIC-8
part A pins: 1 OUT (out), 2 INA- (in), 3 INA+ (in), 4 V- (in), 8 V+ (in)
part B pins: 5 INB+ (in), 6 INB- (in), 7 OUT (out)

## TPD2E2U06
designator D?, comment ESD Protection  (value not drawn)
Dual 1.5-pF, 5.5-V, ±25-kV ESD protection diode with 5.5-A 8/20-uS surge rating for USB 2.0; ComponentLink1Description: New link; ComponentLink1URL: *; value: *
footprint SOT-23-3
pins: 1 K1, 2 K2, 3 A

## TPD5S116
designator U?, comment HDMI companion chip  (value not drawn)
HDMI companion chip with 5-V load switch, level shifter, and ESD clamp; ComponentLink1Description: New link
footprint DSBGA-15 (TPD5S116)
pins: 1 CEC_SYS (io), 2 VCCA (power), 3 CEC_CON (io), 4 SCL_SYS (io), 5 GND (power), 6 SCL_CON (io), 7 SDA_SYS (io), 8 EN (in), 9 SDA_CON (io), 10 5V_SYS (power), 11 GND (power), 12 5V_CON (power), 13 HPD_SYS (out), 14 UTI_CON (io), 15 HPD_CON (in)

## TPS2051C
designator U?, comment Current Limiting Power Switch  (value not drawn)
Current Limiting Switch 0.5A loading, 4.5-5.5V, 97mΩ USB power switch, active-high, output discharge, reverse blocking; ComponentLink1Description: New link; ComponentLink1URL: *; value: *
footprint SOT-23-5
pins: 1 OUT (out), 2 GND (power), 3 ~{FLT} (out), 4 EN (in), 5 IN (in)

## TPS57114
designator U?
Buck Switching Regulator IC Positive Adjustable 0.8V 1 Output 4A 16-WFQFN Exposed Pad; ComponentLink1Description: New link; ComponentLink1URL: *; value: *
footprint WQFN-16
pins: 1 VIN1 (in), 2 VIN2 (in), 3 GND (power), 4 GND (power), 5 AGND (power), 6 VSENS (in), 7 COMP, 8 RT/CLK, 9 SS, 10 PH1 (out), 11 PH2 (out), 12 PH3 (out), 13 BOOT, 14 PWRGD (out), 15 EN (in), 16 VIN3 (in), 17 EP (power)

## Transformer 4 pins
designator T?, comment Transformer  (value not drawn)
ComponentLink1Description: New link
pins: 1, 2, 3, 4

## Transformer 6 pin
designator T?, comment Transformer  (value not drawn)
ComponentLink1Description: New link
pins: 1, 2, 3, 4, 5, 6

## Transformer 8 pin
designator T?, comment Transformer  (value not drawn)
ComponentLink1Description: New link
pins: 1, 2, 3, 4, 5, 6, 7, 8

## USB_TypeA_2.0
designator J?, comment USB Type A  (value not drawn)
USB_TypeA_2.0; ComponentLink1Description: New link
footprint USB_TypeA_2.0
pins: 01 VCC (power), 02 D- (io), 03 D+ (io), 04 GND (power), S1 SHIELD, S2 SHIELD